# Altium schematic symbol library Schlib2.SchLib: 1 symbol
Pins are listed as number, name and electrical type; pins without a type are passive.

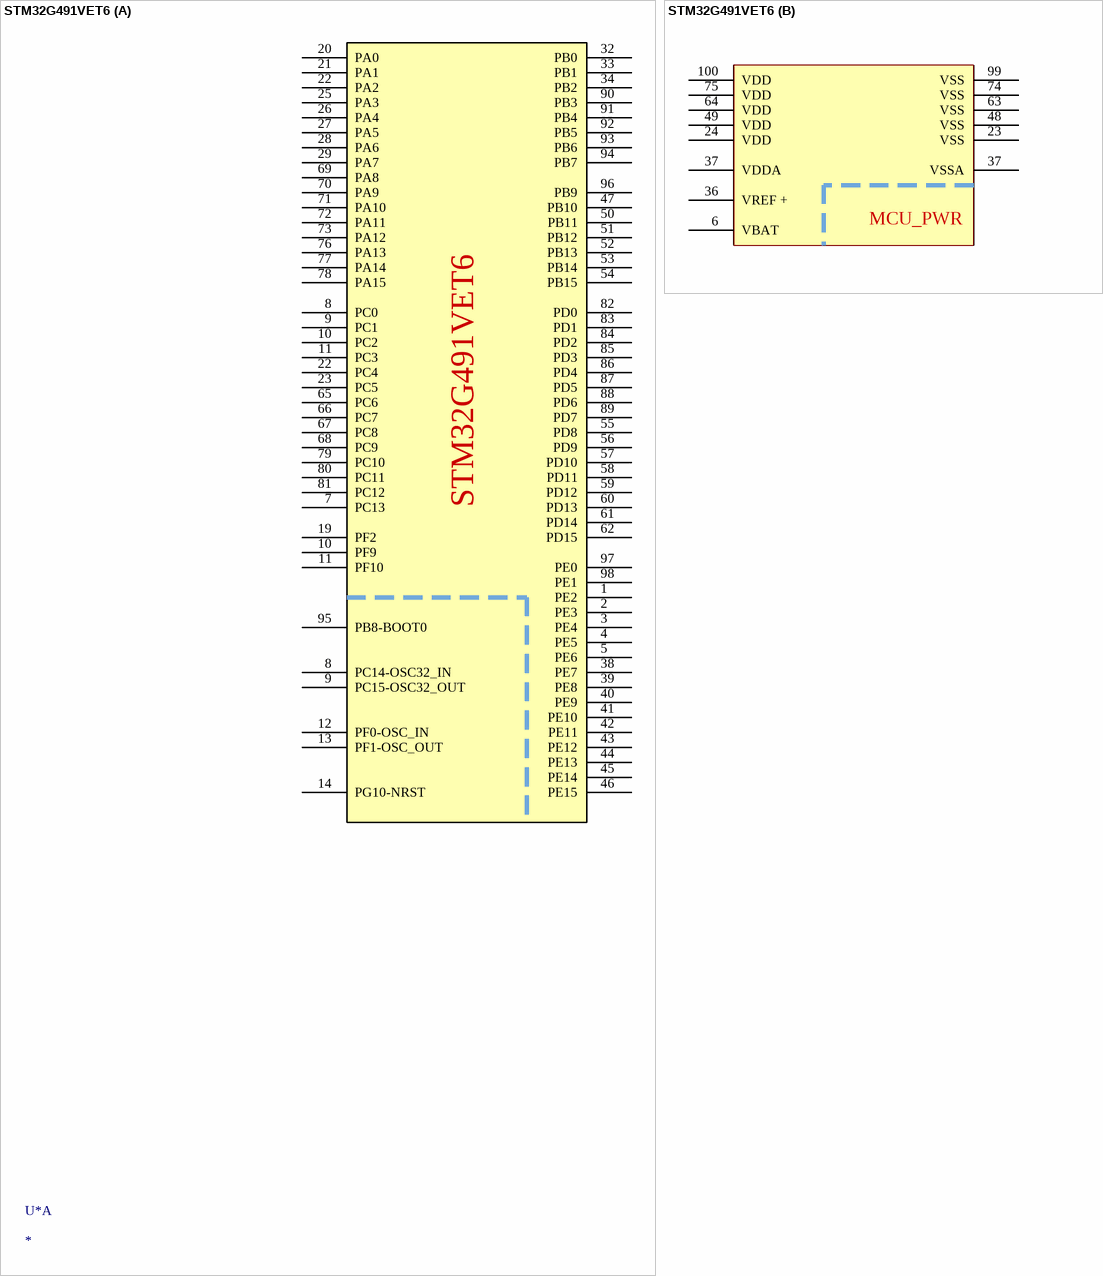
[diagram p0: symbol STM32G491VET6]

## STM32G491VET6
designator U*
footprint QFP50P1600X1600X160-100N
part A pins: 1 PE2, 2 PE3, 3 PE4, 4 PE5, 5 PE6, 7 PC13, 8 PC0, 8 PC14-OSC32_IN, 9 PC1, 9 PC15-OSC32_OUT, 10 PC2, 10 PF9, 11 PC3, 11 PF10, 12 PF0-OSC_IN, 13 PF1-OSC_OUT, 14 PG10-NRST, 19 PF2, 20 PA0, 21 PA1, 22 PA2, 22 PC4, 23 PC5, 25 PA3, 26 PA4, 27 PA5, 28 PA6, 29 PA7, 32 PB0, 33 PB1, 34 PB2, 38 PE7, 39 PE8, 40 PE9, 41 PE10, 42 PE11, 43 PE12, 44 PE13, 45 PE14, 46 PE15, 47 PB10, 50 PB11, 51 PB12, 52 PB13, 53 PB14, 54 PB15, 55 PD8, 56 PD9, 57 PD10, 58 PD11, 59 PD12, 60 PD13, 61 PD14, 62 PD15, 65 PC6, 66 PC7, 67 PC8, 68 PC9, 69 PA8, 70 PA9, 71 PA10, 72 PA11, 73 PA12, 76 PA13, 77 PA14, 78 PA15, 79 PC10, 80 PC11, 81 PC12, 82 PD0, 83 PD1, 84 PD2, 85 PD3, 86 PD4, 87 PD5, 88 PD6, 89 PD7, 90 PB3, 91 PB4, 92 PB5, 93 PB6, 94 PB7, 95 PB8-BOOT0, 96 PB9, 97 PE0, 98 PE1
part B pins: 6 VBAT, 23 VSS, 24 VDD, 36 VREF +, 37 VDDA, 37 VSSA, 48 VSS, 49 VDD, 63 VSS, 64 VDD, 74 VSS, 75 VDD, 99 VSS, 100 VDD
part B text: MCU_PWR